# Altium footprint library flex_conn.PcbLib: 1 footprints
Each footprint in its own frame and in the unit in brackets; x right, y up, seen from the top. Pads: shape width x height; smd on the part's side, far side on the other; paste and mask are expansions set on the pad; w line width, h text height; cw(c..) or ccw(c..) is an arc to the next point about the centre after c.
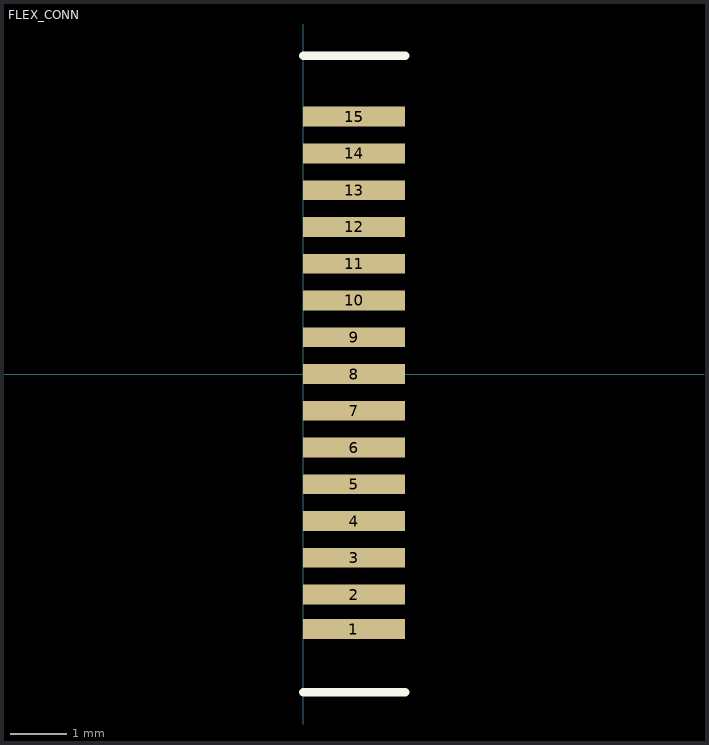
[diagram p0: the footprint, top view; thin cyan lines are the x and y axes]

## FLEX_CONN [mm]
pads (15):
  rect 1.8x0.35 smd: 1(0.896,-4.51) 2(0.9,-3.9) 3(0.9,-3.25) 4(0.9,-2.6) 5(0.9,-1.95) 6(0.9,-1.3) 7(0.9,-0.65) 8(0.9,0) 9(0.9,0.65) 10(0.9,1.3) 11(0.9,1.95) 12(0.9,2.6) 13(0.9,3.25) 14(0.9,3.9) 15(0.9,4.55)
Top Overlay:
  lines w0.152: 0,-5.625 1.8,-5.625 ; 0,5.625 1.8,5.625